# Altium schematic symbol library Schlib2.SchLib: 1 symbol
Pins are listed as number, name and electrical type; pins without a type are passive.

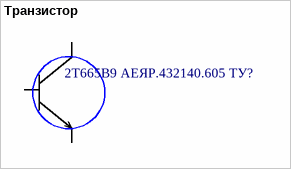
[diagram p0: symbol Транзистор]

## Транзистор
designator 2Т665В9 АЕЯР.432140.605 ТУ?
Транзистор 2Т665В9 АЕЯР.432140.605 ТУ
footprint SOT89-150P340X160-3N (SOT89, 3-Leads, Body 4,60x2,60mm, Pitch 1,50mm, Lead Span 3,4mm, IPC Medium Density)
pins: 1, 2, 3